# EAGLE library part TLW-123-06-T-S (library SAMTEC-Txx_By_element14_Batch_1)
LOW PROFILE HEADER
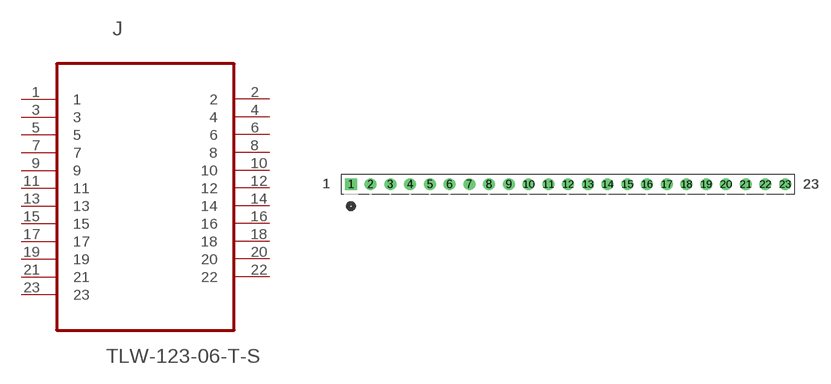
[diagram p278: symbol with the pads of SAMTEC_TLW-123-06-T-S; footprint SAMTEC_TLW-123-06-T-S]

Designator prefix J

## TLW-123-06-T-S (MPN: TLW-123-06-T-S; OC_FARNELL: -; OC_NEWARK: 12P0539; PACKAGE: LOW PROFILE HEADER, SINGLE ROW, 23 way; SUPPLIER: SAMTEC)  [SAMTEC_TLW-123-06-T-S]
1  1  pas
2  2  pas
3  3  pas
4  4  pas
5  5  pas
6  6  pas
7  7  pas
8  8  pas
9  9  pas
10  10  pas
11  11  pas
12  12  pas
13  13  pas
14  14  pas
15  15  pas
16  16  pas
17  17  pas
18  18  pas
19  19  pas
20  20  pas
21  21  pas
22  22  pas
23  23  pas

## Footprint SAMTEC_TLW-123-06-T-S (pad centres in mm)
drill 1.016 square: 1 -55.88,0
drill 1.016: 2 -53.34,0; 3 -50.8,0; 4 -48.26,0; 5 -45.72,0; 6 -43.18,0; 7 -40.64,0; 8 -38.1,0; 9 -35.56,0; 10 -33.02,0; 11 -30.48,0; 12 -27.94,0; 13 -25.4,0; 14 -22.86,0; 15 -20.32,0; 16 -17.78,0; 17 -15.24,0; 18 -12.7,0; 19 -10.16,0; 20 -7.62,0; 21 -5.08,0; 22 -2.54,0; 23 0,0